# Altium footprint library Capacitor_THT.PcbLib: 4 footprints
Each footprint in its own frame and in the unit in brackets; x right, y up, seen from the top. Pads: shape width x height; smd on the part's side, far side on the other; paste and mask are expansions set on the pad; w line width, h text height; cw(c..) or ccw(c..) is an arc to the next point about the centre after c.
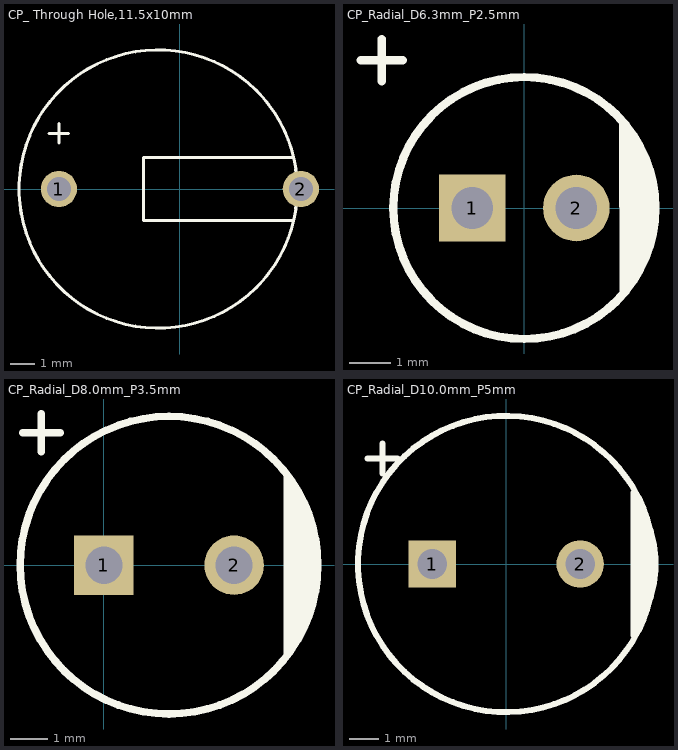
[diagram p0: the footprints below, top view; thin cyan lines are the x and y axes]

## CP_ Through Hole,11.5x10mm [mm]
pads (2):
  round 1.5 hole 1: 1(-5,0) 2(5,0)
Top Overlay:
  circle w0.127: c-0.9,0 r5.75
  lines w0.127: -5.4,2.3 -4.6,2.3 ; -5,1.9 -5,2.7 ; 4.7,-1.3 -1.5,-1.3 -1.5,1.3 4.7,1.3

## CP_Radial_D6.3mm_P2.5mm [mm]
height 12
pads (2):
  rect 1.6x1.6 hole 1: 1(-1.25,0)
  round 1.6 hole 1: 2(1.25,0)
Top Overlay:
  circle w0.203: c0,0 r3.15
  region: 2.375,-2.025 2.375,2.075 2.542,1.855 2.8,1.368 2.976,0.845 3.066,0.301 3.066,-0.251 2.976,-0.795 2.8,-1.318 2.542,-1.805
  lines w0.203: -3.937,3.556 -2.921,3.556 ; -3.429,3.048 -3.429,4.064 ; 2.376,2.05 2.388,-2.038
3D body "C_Radial_D6.3mm_H7.0mm_P2.50mm.step": height 7, standoff -2, extent -3.15,-3.147 3.15,3.15

## CP_Radial_D8.0mm_P3.5mm [mm]
height 12
pads (2):
  rect 1.6x1.6 hole 1: 1(0,0)
  round 1.6 hole 1: 2(3.5,0)
Top Overlay:
  circle w0.203: c1.75,0 r4
  region: 4.925,-2.413 4.925,2.413 4.935,2.42 5.066,2.248 5.289,1.876 5.471,1.482 5.61,1.071 5.703,0.648 5.75,0.217 5.75,-0.217 5.703,-0.648 5.61,-1.071 5.471,-1.482 5.289,-1.876 5.066,-2.248 4.935,-2.42
  lines w0.203: -2.187,3.556 -1.171,3.556 ; -1.679,3.048 -1.679,4.064 ; 4.925,-2.413 4.925,2.413
3D body "C_Radial_D8.0mm_H11.5mm_P3.50mm.step": height 11, standoff -2, extent -2.25,-3.997 5.75,3.997

## CP_Radial_D10.0mm_P5mm [mm]
height 12
pads (2):
  rect 1.6x1.6 hole 1: 1(-2.5,0)
  round 1.6 hole 1: 2(2.5,0)
Top Overlay:
  circle w0.203: c0,0 r5
  region: 4.3,-2.413 4.3,2.413 4.31,2.42 4.441,2.248 4.664,1.876 4.846,1.482 4.985,1.071 5.078,0.648 5.125,0.217 5.125,-0.217 5.078,-0.648 4.985,-1.071 4.846,-1.482 4.664,-1.876 4.441,-2.248 4.31,-2.42
  lines w0.203: -4.687,3.556 -3.671,3.556 ; -4.179,3.048 -4.179,4.064 ; 4.3,-2.413 4.3,2.413
3D body "C_Radial_D10.0mm_H12.5mm_P5.00mm.step": height 12.5, standoff -2, extent -5,-5 5,5